# Altium footprint library MOD-ESP32-WROOM-32E.PcbLib: 1 footprints
Each footprint in its own frame and in the unit in brackets; x right, y up, seen from the top. Pads: shape width x height; smd on the part's side, far side on the other; paste and mask are expansions set on the pad; w line width, h text height; cw(c..) or ccw(c..) is an arc to the next point about the centre after c.
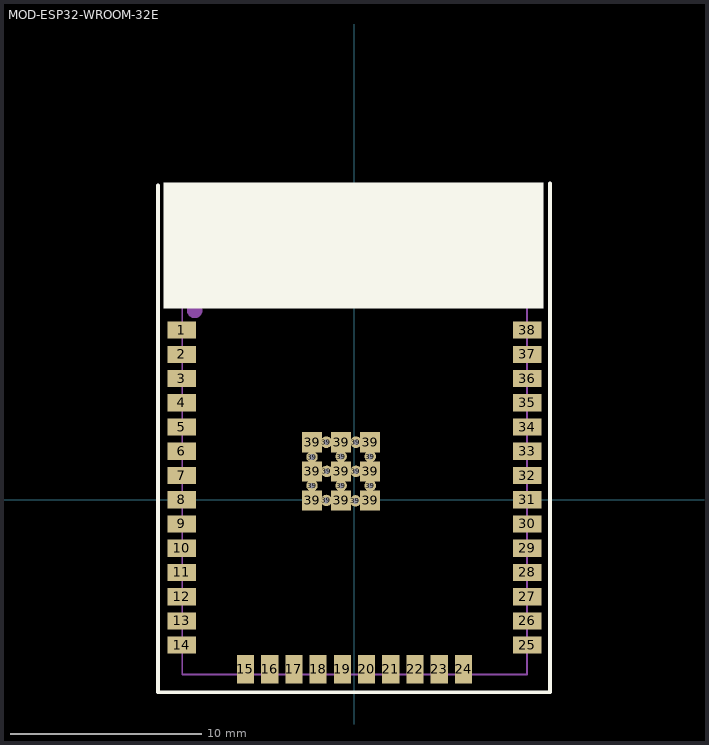
[diagram p0: the footprint, top view; thin cyan lines are the x and y axes]

## MOD-ESP32-WROOM-32E [mm]
pads (59):
  rect 1.5x0.9 smd paste+0 mask+0.05: 1(-9.05,8.89) 2(-9.05,7.62) 3(-9.05,6.35) 4(-9.05,5.08) 5(-9.05,3.81) 6(-9.05,2.54) 7(-9.05,1.27) 8(-9.05,0) 9(-9.05,-1.27) 10(-9.05,-2.54) 11(-9.05,-3.81) 12(-9.05,-5.08) 13(-9.05,-6.35) 14(-9.05,-7.62) 25(9.05,-7.62) 26(9.05,-6.35) 27(9.05,-5.08) 28(9.05,-3.81) 29(9.05,-2.54) 30(9.05,-1.27) 31(9.05,0) 32(9.05,1.27) 33(9.05,2.54) 34(9.05,3.81) 35(9.05,5.08) 36(9.05,6.35) 37(9.05,7.62) 38(9.05,8.89)
  rect 0.9x1.5 smd paste+0 mask+0.05: 15(-5.715,-8.89) 16(-4.445,-8.89) 17(-3.175,-8.89) 18(-1.905,-8.89) 19(-0.635,-8.89) 20(0.635,-8.89) 21(1.905,-8.89) 22(3.175,-8.89) 23(4.445,-8.89) 24(5.715,-8.89)
  rect 1.05x1.05 smd paste+0 mask+0.05: 39(-2.225,-0.035) 39(-2.225,1.49) 39(-2.225,3.015) 39(-0.7,-0.035) 39(-0.7,1.49) 39(-0.7,3.015) 39(0.825,-0.035) 39(0.825,1.49) 39(0.825,3.015)
  round 0.6 hole 0.3: 39(-2.225,0.74) 39(-2.225,2.24) 39(-1.475,-0.035) 39(-1.475,3.015) 39(-1.45,1.49) 39(-0.7,0.74) 39(-0.7,2.265) 39(0.05,-0.06) 39(0.075,1.49) 39(0.075,3.015) 39(0.825,0.74) 39(0.825,2.265)
Top Overlay:
  region: -9.999,16.617 -9.999,10.017 9.901,10.017 9.901,16.617
  lines w0.2: -10.3,16.475 -10.3,-10.085 10.25,-10.085 10.25,16.575
Top Assembly:
  circle w0.6: c-8.375,9.915 r0.1
  lines w0.1: 9.05,10.415 -9.025,10.415 -9.025,16.365 ; -9.025,16.365 -9.025,-9.16 9.05,-9.16 9.05,16.365 -9.025,16.365
  text "'.Designator'" at 0.1,0.367 h0.8
3D body "User Library-esp-wroom-32.STEP": height 3, standoff -0.04, extent -9.035,-9.16 9.035,16.38